# EAGLE library part M701-330442 (library Connector_USB)
USB(2.0) Type-B, RCPT, 4POS, THT-VERT Datasheet <https://cdn.harwin.com/pdfs/M701-330442.pdf>
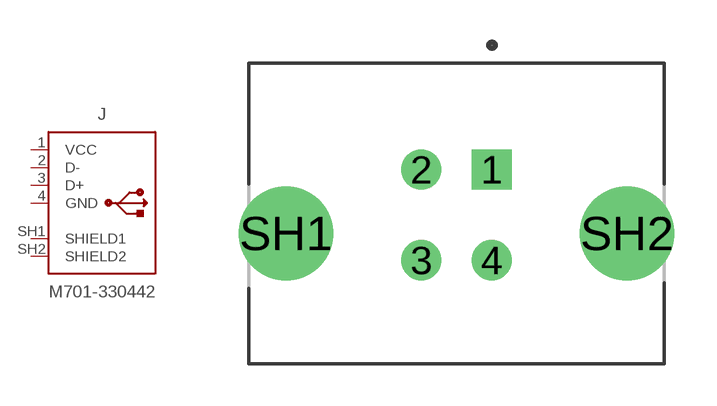
[diagram p3: symbol with the pads of M701-330442; footprint M701-330442]

Designator prefix J

## M701-330442 (CATEGORY: Connector; CONTACTS: 4; CURRENT_RATING: 1.5A; DESCRIPTION: CONN RCPT USB2.0 TYPEB 4POS VERT; GENDER: Receptacle; MANUFACTURER: Harwin; MOUNT_TYPE: Vertical; MPN: M701-330442; OPERATING_TEMP: -55°C to +85°C; PART_STATUS: Active; ROHS_COMPLIANT: RoHS Compliant; SERIES: -; SUB-CATEGORY: USB; TYPE: USB-B; VALUE: USB-B-RCPT; VOLTAGE_RATING: 30VAC/DC)  [M701-330442]
1  VCC  pwr
2  D-
3  D+
4  GND  pwr
SH1  SHIELD1  sup
SH2  SHIELD2  sup

## Footprint M701-330442 (pad centres in mm)
drill 0.914 square: 1 1.245,1.6
drill 0.914: 2 -1.245,1.6; 3 -1.245,-1.6; 4 1.245,-1.6
drill 2.311: SH1 -6.02,-0.66; SH2 6.02,-0.66